# EAGLE library part MAX3120 (library max3120)
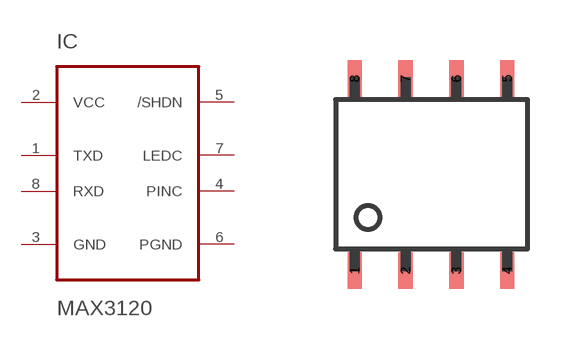
[diagram p0: symbol with the pads of SO08; footprint SO08]

Designator prefix IC

## MAX3120  [SO08]
1  TXD  in
2  VCC  pwr
3  GND  pwr
4  PINC  in
5  /SHDN  pwr
6  PGND  pwr
7  LEDC  out
8  RXD  out

## Footprint SO08 (pad centres in mm)
smd 0.356 x 0.914: 1 0.178,0.457; 2 1.448,0.457; 3 2.718,0.457; 4 3.988,0.457; 5 3.988,5.258; 6 2.718,5.258; 7 1.448,5.258; 8 0.178,5.258